# EAGLE library part MCP6004-I_P (library SamacSys_Parts)
IC OPAMP QUAD 1.8V Source: Datasheet <https://componentsearchengine.com/Datasheets/1/MCP6004-I_P.pdf>
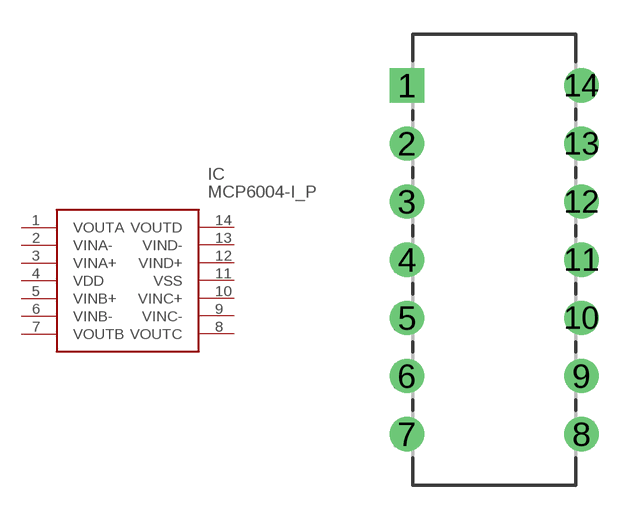
[diagram p2: symbol with the pads of DIP254P762X533-14; footprint DIP254P762X533-14]

Designator prefix IC

## MCP6004-I_P (DESCRIPTION: IC OPAMP QUAD 1.8V; HEIGHT: mm; MANUFACTURER_NAME: Microchip; MANUFACTURER_PART_NUMBER: MCP6004-I/P; MOUSER_PART_NUMBER: 579-MCP6004-I/P)  [DIP254P762X533-14]
1  VOUTA
2  VINA-
3  VINA+
4  VDD
5  VINB+
6  VINB-
7  VOUTB
8  VOUTC
9  VINC-
10  VINC+
11  VSS
12  VIND+
13  VIND-
14  VOUTD

## Footprint DIP254P762X533-14 (pad centres in mm)
DIP254P762X533-14
drill 0.991 pad 1.486 square: 1 -7.62,15.24
drill 0.991 pad 1.486: 2 -7.62,12.7; 3 -7.62,10.16; 4 -7.62,7.62; 5 -7.62,5.08; 6 -7.62,2.54; 7 -7.62,0; 8 0,0; 9 0,2.54; 10 0,5.08; 11 0,7.62; 12 0,10.16; 13 0,12.7; 14 0,15.24